# Altium schematic symbol library RCU.SchLib: 8 symbols
Pins are listed as number, name and electrical type; pins without a type are passive.

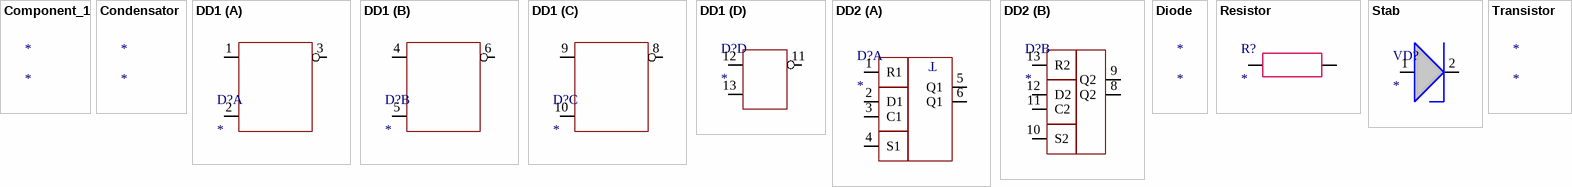
[diagram p0: symbols Component_1 to Transistor]

## Component_1
designator *

## Condensator
designator *

## DD1
designator D?
footprint TSOP127P600X152-14N (TSOP, 14-Leads, Body 8,65x3,90mm, Pitch 1,27mm, IPC Medium Density)
part A pins: 1, 2, 3, 7 (power) hidden to GND "GND", 14 (power) hidden to VCC "VCC"
part B pins: 4, 5, 6, 7 (power) hidden to GND "GND", 14 (power) hidden to VCC "VCC"
part C pins: 8, 9, 10, 14 (power) hidden to VCC "VCC", 15 (power) hidden to GND "GND"
part D pins: 7 (power) hidden to VCC "GND", 11, 12, 13, 14 (power) hidden to VCC "VCC"

## DD2
designator D?
footprint TSOP127P600X152-14N (TSOP, 14-Leads, Body 8,65x3,90mm, Pitch 1,27mm, IPC Medium Density)
part A pins: 1 R1, 2 D1, 3 C1, 4 S1, 5 Q1, 6 Q1, 7 (power) hidden to GND "GND", 14 (power) hidden to VCC "VCC"
part B pins: 7 hidden to GND "GND", 8 Q2, 9 Q2, 10 S2, 11 C2, 12 D2, 13 R2, 14 hidden to VCC "VCC"
part A text: T

## Diode
designator *

## Resistor
designator R?
footprint Res
pins: 1, 2

## Stab
designator VD?
pins: 1, 2

## Transistor
designator *